# Altium schematic symbol library PLEB.SCHLIB: 1 symbol
Pins are listed as number, name and electrical type; pins without a type are passive.

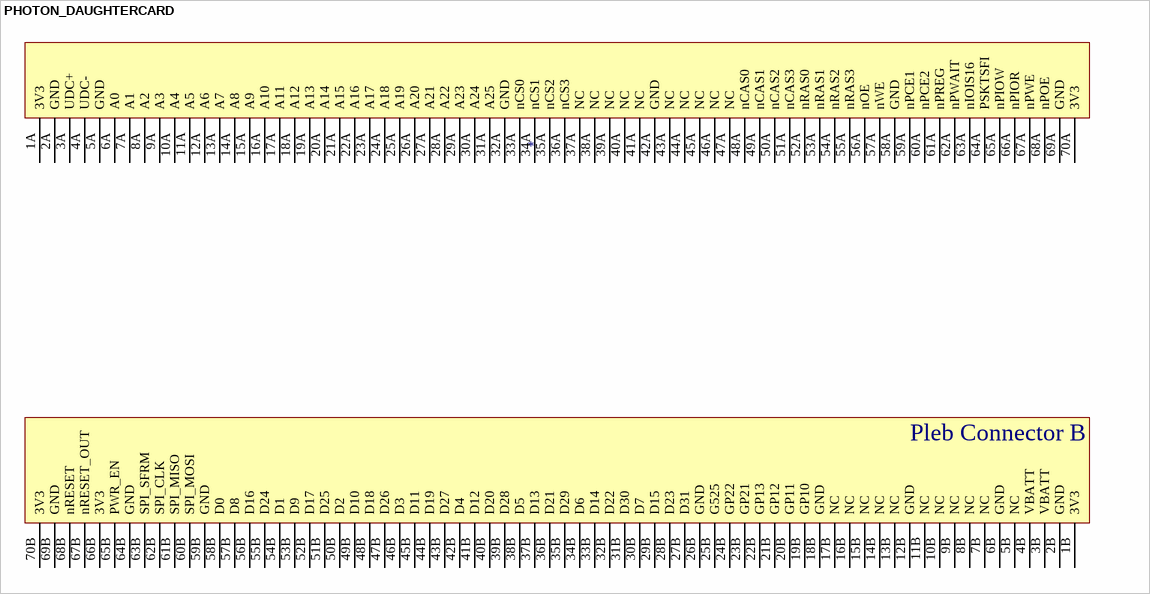
[diagram p0: symbol PHOTON_DAUGHTERCARD]

## PHOTON_DAUGHTERCARD
designator ?
pins: 1A 3V3, 1B 3V3, 2A GND, 2B GND, 3A UDC+, 3B VBATT, 4A UDC-, 4B VBATT, 5A GND, 5B NC, 6A A0, 6B GND, 7A A1, 7B NC, 8A A2, 8B NC, 9A A3, 9B NC, 10A A4, 10B NC, 11A A5, 11B NC, 12A A6, 12B GND, 13A A7, 13B NC, 14A A8, 14B NC, 15A A9, 15B NC, 16A A10, 16B NC, 17A A11, 17B NC, 18A A12, 18B GND, 19A A13, 19B GP10, 20A A14, 20B GP11, 21A A15, 21B GP12, 22A A16, 22B GP13, 23A A17, 23B GP21, 24A A18, 24B GP22, 25A A19, 25B G525, 26A A20, 26B GND, 27A A21, 27B D31, 28A A22, 28B D23, 29A A23, 29B D15, 30A A24, 30B D7, 31A A25, 31B D30, 32A GND, 32B D22, 33A nCS0, 33B D14, 34A nCS1, 34B D6, 35A nCS2, 35B D29, 36A nCS3, 36B D21, 37A NC, 37B D13, 38A NC, 38B D5, 39A NC, 39B D28, 40A NC, 40B D20, 41A NC, 41B D12, 42A GND, 42B D4, 43A NC, 43B D27, 44A NC, 44B D19, 45A NC, 45B D11, 46A NC, 46B D3, 47A NC, 47B D26, 48A nCAS0, 48B D18, 49A nCAS1, 49B D10, 50A nCAS2, 50B D2, 51A nCAS3, 51B D25, 52A nRAS0, 52B D17, 53A nRAS1, 53B D9, 54A nRAS2, 54B D1, 55A nRAS3, 55B D24, 56A nOE, 56B D16, 57A nWE, 57B D8, 58A GND, 58B D0, 59A nPCE1, 59B GND, 60A nPCE2, 60B SPI_MOSI, 61A nPREG, 61B SPI_MISO, 62A nPWAIT, 62B SPI_CLK, 63A nIOIS16, 63B SPI_SFRM, 64A PSKTSFI, 64B GND, 65A nPIOW, 65B PWR_EN, 66A nPIOR, 66B 3V3, 67A nPWE, 67B nRESET_OUT, 68A nPOE, 68B nRESET, 69A GND, 69B GND, 70A 3V3, 70B 3V3
text: Pleb Connector B